# Altium footprint library Sensors.PcbLib: 2 footprints
Each footprint in its own frame and in the unit in brackets; x right, y up, seen from the top. Pads: shape width x height; smd on the part's side, far side on the other; paste and mask are expansions set on the pad; w line width, h text height; cw(c..) or ccw(c..) is an arc to the next point about the centre after c.
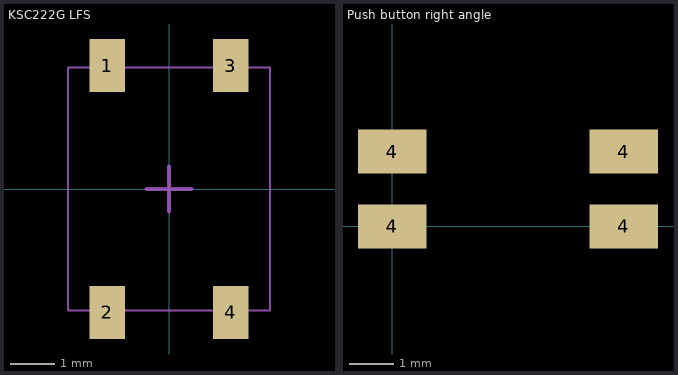
[diagram p0: the footprints below, top view; thin cyan lines are the x and y axes]

## KSC222G LFS [mm]
pads (4):
  rect 0.8x1.2 smd: 1(-1.4,2.794) 2(-1.4,-2.794) 3(1.4,2.794) 4(1.4,-2.794)
Assembly Top:
  lines w0.05: -2.286,-2.75 2.286,-2.75 2.286,2.75 -2.286,2.75 -2.286,-2.75
Top Placement:
  lines w0.05: -2.286,-2.75 2.286,-2.75 2.286,2.75 -2.286,2.75 -2.286,-2.75
  lines w0.1: -0.5,0 0.5,0 ; 0,-0.5 0,0.5
3D body: height 1.5, standoff 0, extent -1.091,-1.098 1.1,1.098
3D body: height 1.2, standoff 0, extent -2.286,-2.286 2.286,2.286
3D body: height 0.3, standoff 0, extent 1.143,2.159 1.651,3.048
3D body: height 0.3, standoff 0, extent -1.651,2.159 -1.143,3.048
3D body: height 0.3, standoff 0, extent -1.651,-3.064 -1.143,-2.175
3D body: height 0.3, standoff 0, extent 1.143,-3.064 1.651,-2.175

## Push button right angle [mm]
pads (4):
  rect 1.55x1 smd: 4(0,0) 4(0,1.7) 4(5.25,0) 4(5.25,1.7)
3D body "User Library-KLS7-TS5401.step": height 1.35, standoff -0.5, extent 0.417,-1.261 4.917,2.389